# Altium footprint library 20240501.PcbLib: 20 footprints (part 2 of 2)
Each footprint in its own frame and in the unit in brackets; x right, y up, seen from the top. Pads: shape width x height; smd on the part's side, far side on the other; paste and mask are expansions set on the pad; w line width, h text height; cw(c..) or ccw(c..) is an arc to the next point about the centre after c.
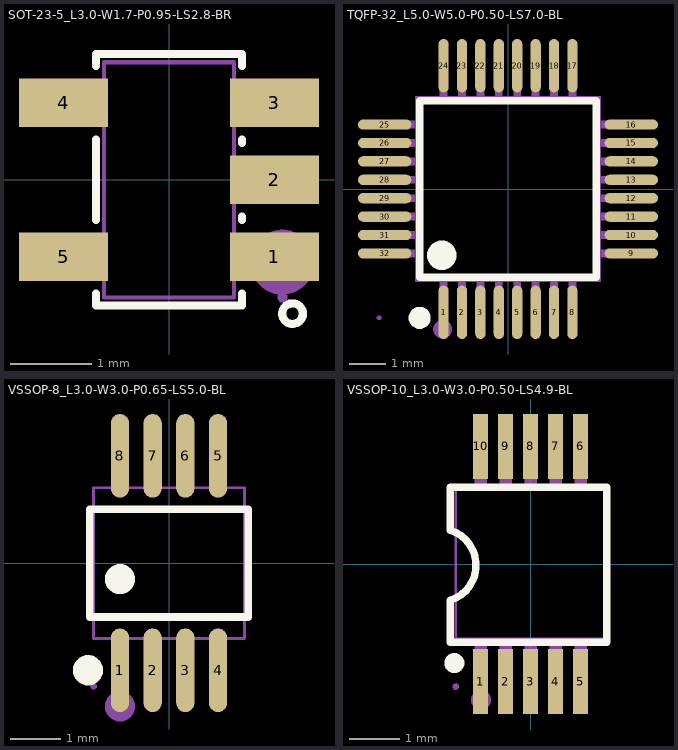
[diagram p1: the footprints below, top view; thin cyan lines are the x and y axes]

## SOT-23-5_L3.0-W1.7-P0.95-LS2.8-BR [mm]
pads (5):
  rect 1.1x0.6 smd: 1(1.3,-0.95) 2(1.3,0) 3(1.3,0.95) 4(-1.3,0.95) 5(-1.3,-0.95)
Top Overlay:
  circle w0.1: c1.524,-1.651 r0.127
  lines w0.1: -0.9,-1.404 -0.9,-1.55 0.9,-1.55 0.9,-1.404 ; -0.9,-0.496 -0.9,0.496 ; -0.9,1.404 -0.9,1.55 0.9,1.55 0.9,1.404 ; 0.9,-0.496 0.9,-0.454 ; 0.9,0.454 0.9,0.496
Mechanical 6:
  circle w0.4: c1.397,-1.016 r0.2
Mechanical 15:
  region: -1.4,-1.15 -1.4,-0.75 -0.95,-0.75 -0.95,-1.15
  region: -0.96,-1.15 -0.96,-0.75 -0.79,-0.75 -0.79,-1.15
  region: -1.4,0.75 -1.4,1.15 -0.95,1.15 -0.95,0.75
  region: -0.96,0.75 -0.96,1.15 -0.79,1.15 -0.79,0.75
  region: 0.95,0.75 0.95,1.15 1.4,1.15 1.4,0.75
  region: 0.79,0.75 0.79,1.15 0.96,1.15 0.96,0.75
  region: 0.95,-0.2 0.95,0.2 1.4,0.2 1.4,-0.2
  region: 0.79,-0.2 0.79,0.2 0.96,0.2 0.96,-0.2
  region: 0.95,-1.15 0.95,-0.75 1.4,-0.75 1.4,-1.15
  region: 0.79,-1.15 0.79,-0.75 0.96,-0.75 0.96,-1.15
  region: 1.46,-1.45 1.46,-1.425 1.425,-1.39 1.375,-1.39 1.34,-1.425 1.34,-1.45 1.34,-1.475 1.375,-1.51 1.425,-1.51 1.46,-1.475 1.46,-1.45
  lines w0.051: -0.8,-1.45 -0.8,1.45 0.8,1.45 0.8,-1.45 -0.8,-1.45

## TQFP-32_L5.0-W5.0-P0.50-LS7.0-BL [mm]
pads (32):
  oval 0.28x1.45 smd: 1(-1.75,-3.35) 2(-1.25,-3.35) 3(-0.75,-3.35) 4(-0.25,-3.35) 5(0.25,-3.35) 6(0.75,-3.35) 7(1.25,-3.35) 8(1.75,-3.35) 17(1.75,3.35) 18(1.25,3.35) 19(0.75,3.35) 20(0.25,3.35) 21(-0.25,3.35) 22(-0.75,3.35) 23(-1.25,3.35) 24(-1.75,3.35)
  oval 1.45x0.28 smd: 9(3.35,-1.75) 10(3.35,-1.25) 11(3.35,-0.75) 12(3.35,-0.25) 13(3.35,0.25) 14(3.35,0.75) 15(3.35,1.25) 16(3.35,1.75) 25(-3.35,1.75) 26(-3.35,1.25) 27(-3.35,0.75) 28(-3.35,0.25) 29(-3.35,-0.25) 30(-3.35,-0.75) 31(-3.35,-1.25) 32(-3.35,-1.75)
Top Overlay:
  lines w0.2: -2.4,-2.4 2.4,-2.4 2.4,2.4 -2.4,2.4 -2.4,-2.4
  lines w0.3: -2.4,-3.35 ccw(c-2.399,-3.5) -2.398,-3.35
  lines w0.4: -1.801,-1.6 ccw(c-1.798,-1.8) -1.796,-1.6
Mechanical 6:
  circle w0.254: c-1.778,-3.81 r0.127
Mechanical 15:
  drawing of 69 lines, arcs and shapes, not listed

## VSSOP-8_L3.0-W3.0-P0.65-LS5.0-BL [mm]
pads (8):
  oval 0.364x1.662 smd: 1(-0.975,-2.131) 2(-0.325,-2.131) 3(0.325,-2.131) 4(0.975,-2.131) 5(0.975,2.131) 6(0.325,2.131) 7(-0.325,2.131) 8(-0.975,2.131)
Top Overlay:
  circle w0.3: c-0.975,-0.319 r0.15
  circle w0.3: c-1.609,-2.131 r0.15
  lines w0.152: -1.576,-1.071 -1.576,1.071 1.576,1.071 1.576,-1.071 -1.576,-1.071
Mechanical 6:
  circle w0.3: c-0.975,-2.85 r0.15
Mechanical 15:
  region: -1.44,-2.45 -1.44,-2.426 -1.475,-2.391 -1.524,-2.391 -1.559,-2.426 -1.56,-2.45 -1.559,-2.475 -1.524,-2.509 -1.475,-2.509 -1.44,-2.475 -1.44,-2.45
  region: -1.133,-2.45 -1.133,-1.9 -0.817,-1.9 -0.817,-2.45
  region: -1.133,-1.91 -1.133,-1.49 -0.817,-1.49 -0.817,-1.91
  region: -0.482,-2.45 -0.482,-1.9 -0.167,-1.9 -0.167,-2.45
  region: -0.482,-1.91 -0.482,-1.49 -0.167,-1.49 -0.167,-1.91
  region: 0.167,-2.45 0.167,-1.9 0.482,-1.9 0.482,-2.45
  region: 0.167,-1.91 0.167,-1.49 0.482,-1.49 0.482,-1.91
  region: 0.817,-2.45 0.817,-1.9 1.133,-1.9 1.133,-2.45
  region: 0.817,-1.91 0.817,-1.49 1.133,-1.49 1.133,-1.91
  region: -1.133,2.45 -1.133,1.9 -0.817,1.9 -0.817,2.45
  region: -1.133,1.91 -1.133,1.49 -0.817,1.49 -0.817,1.91
  region: -0.482,2.45 -0.482,1.9 -0.167,1.9 -0.167,2.45
  region: -0.482,1.91 -0.482,1.49 -0.167,1.49 -0.167,1.91
  region: 0.167,2.45 0.167,1.9 0.482,1.9 0.482,2.45
  region: 0.167,1.91 0.167,1.49 0.482,1.49 0.482,1.91
  region: 0.817,2.45 0.817,1.9 1.133,1.9 1.133,2.45
  region: 0.817,1.91 0.817,1.49 1.133,1.49 1.133,1.91
  lines w0.051: -1.5,-1.5 -1.5,1.5 1.5,1.5 1.5,-1.5 -1.5,-1.5

## VSSOP-10_L3.0-W3.0-P0.50-LS4.9-BL [mm]
pads (10):
  rect 0.3x1.3 smd paste+0 mask+0.015: 1(-1,-2.35) 2(-0.5,-2.35) 3(0,-2.35) 4(0.5,-2.35) 5(1,-2.35)
  rect 0.3x1.3 smd: 6(1,2.35) 7(0.5,2.35) 8(0,2.35) 9(-0.5,2.35) 10(-1,2.35)
Top Overlay:
  circle w0.2: c-1.524,-1.981 r0.1
  lines w0.15: -1.603,-1.562 -1.603,-0.724 ccw(c-1.82,-0.026) -1.603,0.673 ; -1.603,0.698 -1.603,1.537 ; -1.578,-1.562 1.522,-1.562 ; -1.578,1.537 1.522,1.537 1.522,-1.564
Mechanical 6:
  circle w0.2: c-0.99,-2.718 r0.1
Mechanical 15:
  region: -1.12,-2.45 -1.12,-1.9 -0.88,-1.9 -0.88,-2.45
  region: -1.12,-1.91 -1.12,-1.49 -0.88,-1.49 -0.88,-1.91
  region: -0.62,-2.45 -0.62,-1.9 -0.38,-1.9 -0.38,-2.45
  region: -0.62,-1.91 -0.62,-1.49 -0.38,-1.49 -0.38,-1.91
  region: -0.12,-2.45 -0.12,-1.9 0.12,-1.9 0.12,-2.45
  region: -0.12,-1.91 -0.12,-1.49 0.12,-1.49 0.12,-1.91
  region: 0.38,-2.45 0.38,-1.9 0.62,-1.9 0.62,-2.45
  region: 0.38,-1.91 0.38,-1.49 0.62,-1.49 0.62,-1.91
  region: 0.88,-2.45 0.88,-1.9 1.12,-1.9 1.12,-2.45
  region: 0.88,-1.91 0.88,-1.49 1.12,-1.49 1.12,-1.91
  region: 0.88,1.9 0.88,2.45 1.12,2.45 1.12,1.9
  region: 0.88,1.49 0.88,1.91 1.12,1.91 1.12,1.49
  region: 0.38,1.9 0.38,2.45 0.62,2.45 0.62,1.9
  region: 0.38,1.49 0.38,1.91 0.62,1.91 0.62,1.49
  region: -0.12,1.9 -0.12,2.45 0.12,2.45 0.12,1.9
  region: -0.12,1.49 -0.12,1.91 0.12,1.91 0.12,1.49
  region: -0.62,1.9 -0.62,2.45 -0.38,2.45 -0.38,1.9
  region: -0.62,1.49 -0.62,1.91 -0.38,1.91 -0.38,1.49
  region: -1.12,1.9 -1.12,2.45 -0.88,2.45 -0.88,1.9
  region: -1.12,1.49 -1.12,1.91 -0.88,1.91 -0.88,1.49
  region: -1.44,-2.45 -1.44,-2.425 -1.475,-2.39 -1.525,-2.39 -1.56,-2.425 -1.56,-2.45 -1.56,-2.475 -1.525,-2.51 -1.475,-2.51 -1.44,-2.475 -1.44,-2.45
  lines w0.051: -1.5,-1.5 -1.5,1.5 1.5,1.5 1.5,-1.5 -1.5,-1.5